# EAGLE library part LM2664 (library texas)
IC REG SWTCHD CAP INV 40MA SOT23
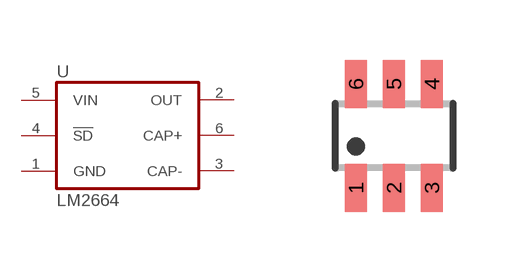
[diagram p122: symbol with the pads of SOT23-6; footprint SOT23-6]

Designator prefix U

## LM2664  [SOT23-6]
1  GND  pas
2  OUT  pas
3  CAP-  pas
4  !SD  pas
5  VIN  pas
6  CAP+  pas

## Footprint SOT23-6 (pad centres in mm)
SOT-23 - DBV 0.95 mm pitch
smd 0.55 x 1.2: 1 -0.95,-1.3; 2 0,-1.3; 3 0.95,-1.3; 4 0.95,1.3; 5 0,1.3; 6 -0.95,1.3